# EAGLE library part 74HC2G14 (library Public)
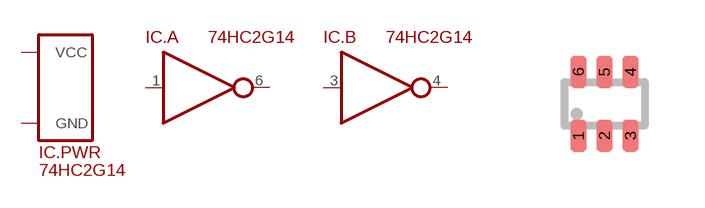
[diagram p64: symbol with the pads of SOT363; footprint SOT363]

Designator prefix IC; gates .PWR=SUPPLY_VCC/GND .A=INVERTER .B=INVERTER

## 74HC2G14  [SOT363]
1  .A:IN
2  .PWR:GND
3  .B:IN
4  .B:OUT
5  .PWR:VCC
6  .A:OUT

## Footprint SOT363 (pad centres in mm)
SOT363 SC70-6 SC88 TSSOP-6 UMT6 US6 S-Mini6
smd 0.4 x 0.8: 1 -0.65,-0.8; 2 0,-0.8; 3 0.65,-0.8; 4 0.65,0.8; 5 0,0.8; 6 -0.65,0.8